# EAGLE library part 79109-30_S (library untitled)
RECEPTACAL
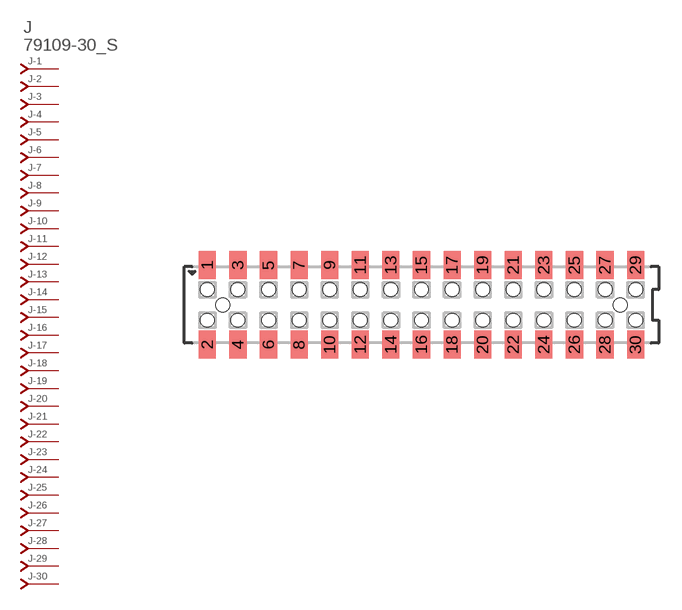
[diagram p271: symbol with the pads of 79109-30; footprint 79109-30]

Designator prefix J; gates -1=J-NV -2=J-N -3=J-N -4=J-N -5=J-N -6=J-N -7=J-N -8=J-N -9=J-N -10=J-N -11=J-N -12=J-N -13=J-N -14=J-N -15=J-N -16=J-N -17=J-N -18=J-N -19=J-N -20=J-N -21=J-N -22=J-N -23=J-N -24=J-N -25=J-N -26=J-N -27=J-N -28=J-N -29=J-N -30=J-N

## 79109-30_S  [79109-30]
1  -1:J  pas
2  -2:J  pas
3  -3:J  pas
4  -4:J  pas
5  -5:J  pas
6  -6:J  pas
7  -7:J  pas
8  -8:J  pas
9  -9:J  pas
10  -10:J  pas
11  -11:J  pas
12  -12:J  pas
13  -13:J  pas
14  -14:J  pas
15  -15:J  pas
16  -16:J  pas
17  -17:J  pas
18  -18:J  pas
19  -19:J  pas
20  -20:J  pas
21  -21:J  pas
22  -22:J  pas
23  -23:J  pas
24  -24:J  pas
25  -25:J  pas
26  -26:J  pas
27  -27:J  pas
28  -28:J  pas
29  -29:J  pas
30  -30:J  pas

## Footprint 79109-30 (pad centres in mm)
RECEPTACAL SMD Dual Row, Vertical, Pass-Thru
smd 1.12 x 1.83: 1 -14,2.6; 2 -14,-2.6; 3 -12,2.6; 4 -12,-2.6; 5 -10,2.6; 6 -10,-2.6; 7 -8,2.6; 8 -8,-2.6; 9 -6,2.6; 10 -6,-2.6; 11 -4,2.6; 12 -4,-2.6; 13 -2,2.6; 14 -2,-2.6; 15 0,2.6; 16 0,-2.6; 17 2,2.6; 18 2,-2.6; 19 4,2.6; 20 4,-2.6; 21 6,2.6; 22 6,-2.6; 23 8,2.6; 24 8,-2.6; 25 10,2.6; 26 10,-2.6; 27 12,2.6; 28 12,-2.6; 29 14,2.6; 30 14,-2.6
hole 0.914 at -13,0
hole 0.914 at -14,1
hole 0.914 at -14,-1
hole 0.914 at -12,-1
hole 0.914 at -12,1
hole 0.914 at -10,-1
hole 0.914 at -10,1
hole 0.914 at 13,0
hole 0.914 at -8,1
hole 0.914 at -8,-1
hole 0.914 at -6,1
hole 0.914 at -6,-1
hole 0.914 at -4,1
hole 0.914 at -4,-1
hole 0.914 at -2,1
hole 0.914 at -2,-1
hole 0.914 at 0,-1
hole 0.914 at 0,1
hole 0.914 at 2,1
hole 0.914 at 2,-1
hole 0.914 at 4,1
hole 0.914 at 4,-1
hole 0.914 at 6,1
hole 0.914 at 6,-1
hole 0.914 at 8,-1
hole 0.914 at 8,1
hole 0.914 at 10,1
hole 0.914 at 12,1
hole 0.914 at 14,1
hole 0.914 at 10,-1
hole 0.914 at 12,-1
hole 0.914 at 14,-1